# Altium integrated library NANO33BLE_V2.0.IntLib: 23 symbols
Pins are listed as number, name and electrical type; pins without a type are passive.

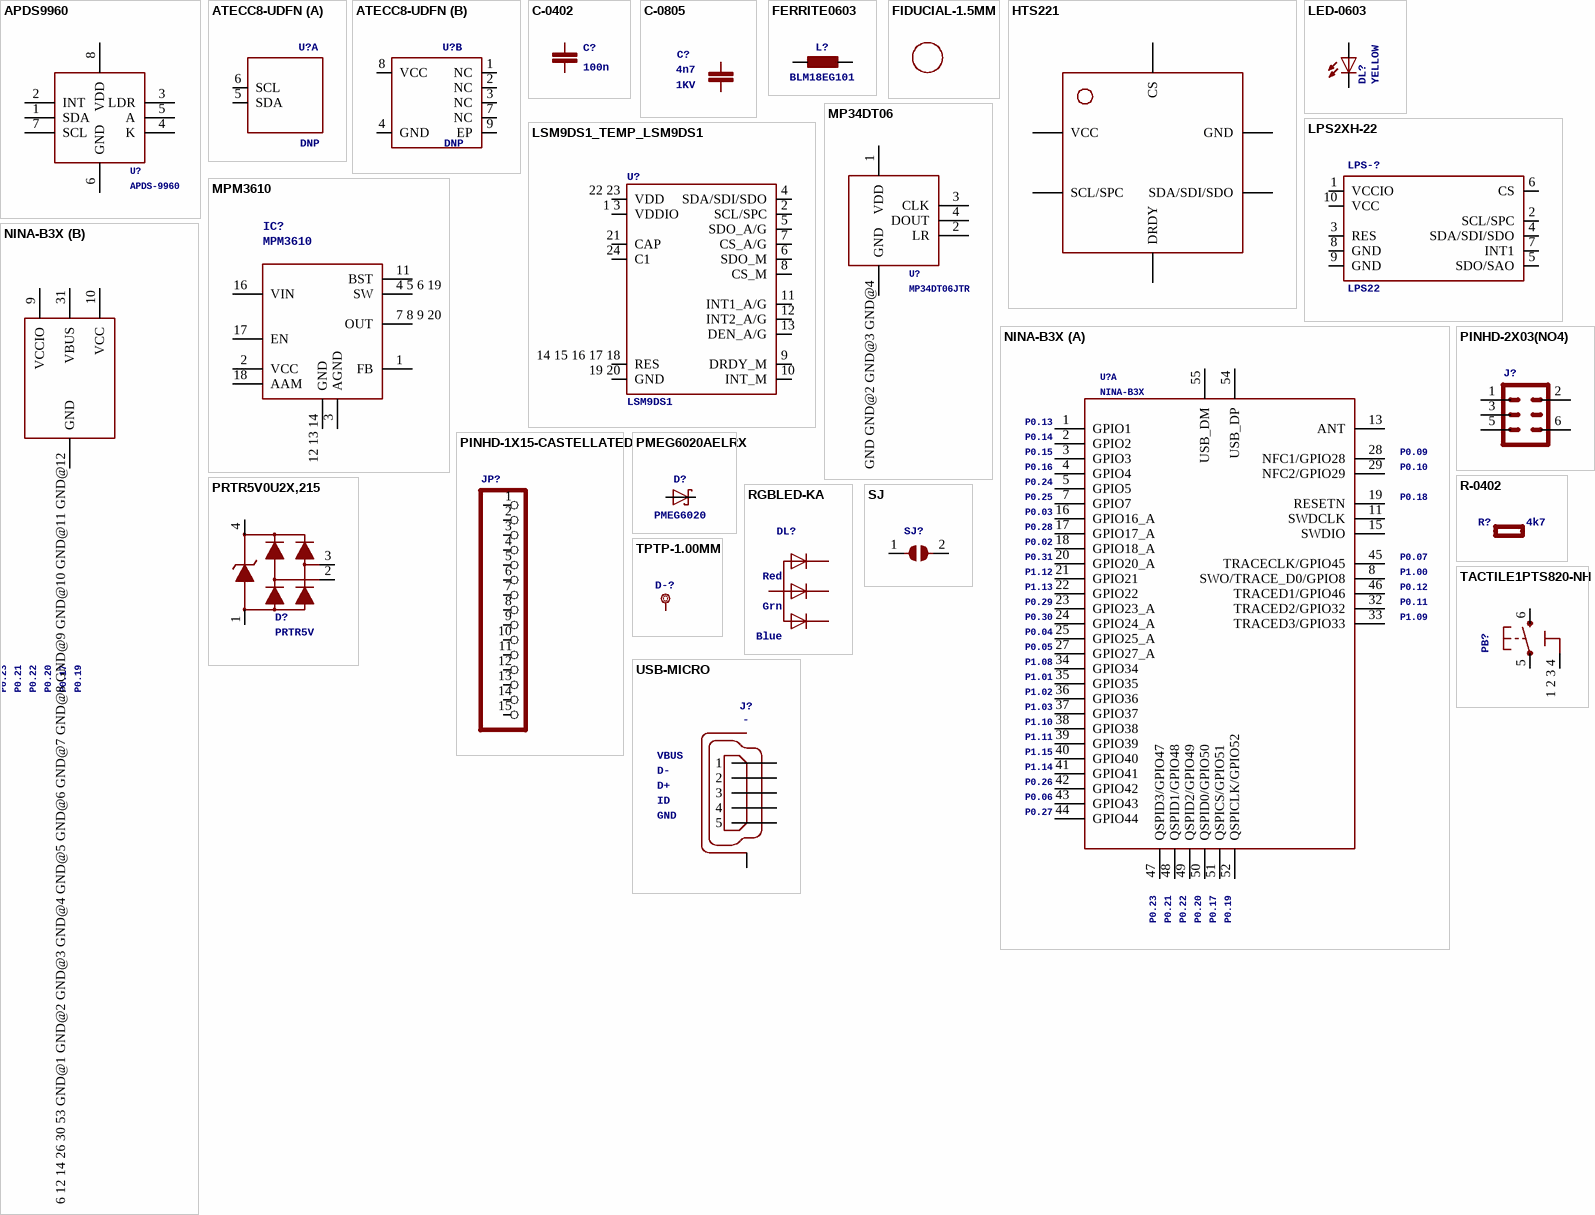
[diagram p0: symbols APDS9960 to USB-MICRO]

## APDS9960
designator U?, comment APDS-9960
MANUFACTURER: Broadcom; GateName_1: G$1; SymbolName_1: APDS9960; CODE-ARDUINO: A5475; NOTE: NO; LibraryName: Arduino-Sensors; DeviceSetName: APDS9960; DATASHEET: https://docs.broadcom.com/docs/AV02-4191EN; DISTRIBUTOR-LINK: https://www.digikey.com/product-detail/en/broadcom-limited/APDS-9960/516-3480-1-ND/6677150; DISTRIBUTOR-PN: 516-3480-1-ND; MANUFACTURER-PN: APDS-9960
footprint APDS9960
pins: 1 SDA, 2 INT, 3 LDR, 4 K, 5 A, 6 GND (power), 7 SCL, 8 VDD (power)

## ATECC8-UDFN
designator U?, comment DNP
Secure authentication and product validation device, EEPROM, I2C, 2.0 - 5.5V; GateName_1: A; SymbolName_1: ATECC508A-A; GateName_2: B; SymbolName_2: ATECC508A-B; DeviceName: 8-UDFN; DeviceSetName: ATECC; LibraryName: Arduino-ICs; CODE-ARDUINO: DNP; DATASHEET: DNP; DISTRIBUTOR-LINK: DNP; DISTRIBUTOR-PN: DNP; MANUFACTURER: DNP; MANUFACTURER-PN: DNP; NOTE: DNP
footprint SON50P300X200X60-9N-EP160X140
part A pins: 5 SDA, 6 SCL
part B pins: 1 NC, 2 NC, 3 NC, 4 GND (power), 7 NC, 8 VCC (power), 9 EP

## C-0402
designator C?, comment 100n
SMD Capacitor; MANUFACTURER: TDK; MANUFACTURER-PN: C1005X5R1H104K050BB; GateName_1: G$1; SymbolName_1: C; DeviceName: -0402; CODE-ARDUINO: 0132; LibraryName: Arduino-rcl; DeviceSetName: C; DATASHEET: http://www.tdk.com/pdf/TDKMLCCCapRange.pdf; DISTRIBUTOR-LINK: http://www.digikey.com/product-detail/en/tdk-corporation/C1005X5R1H104K050BB/445-5942-1-ND/2443982; DISTRIBUTOR-PN: 445-5942-1-ND; NOTE: -
footprint 0402-1005X55N
pins: 1, 2

## C-0805
designator C?, comment 4n7  VOLTAGE: 1KV
SMD Capacitor; MANUFACTURER: Kemet; MANUFACTURER-PN: C0805C472KDRACTU; GateName_1: G$1; SymbolName_1: C; DeviceName: -0805; CODE-ARDUINO: 0689; LibraryName: Arduino-rcl; DeviceSetName: C; DATASHEET: http://www.kemet.com/Lists/ProductCatalog/Attachments/40/KEM_C1010_X7R_HV_SMD.pdf; DISTRIBUTOR-LINK: www.kemet.com/docfinder?Partnumber=C0805C472KDRACTU; DISTRIBUTOR-PN: 399-6738-1-ND; NOTE: -
footprint 0805-R2013X50N
pins: 1, 2

## FERRITE0603
designator L?, comment BLM18EG101
SMD ferrite; MANUFACTURER: Murata; MANUFACTURER-PN: BLM18EG101TN1D; GateName_1: >NAME; DeviceName: 0603; SymbolName_1: FERRITE; LibraryName: Arduino-rcl; DeviceSetName: FERRITE; CODE-ARDUINO: -; DATASHEET: http://www.murata.com/en-us/products/productdata/8796747366430/ENFA0021.pdf; DISTRIBUTOR-LINK: https://www.digikey.com/product-detail/en/murata-electronics-north-america/BLM18EG101TN1D/490-5978-1-ND/3845178; DISTRIBUTOR-PN: 490-5978-1-ND; NOTE: -
footprint 0603-1608X90N
pins: 1, 2

## FIDUCIAL-1.5MM
designator FD?, comment DNP  (value not drawn)
Fiducial mount; GateName_1: G$1; SymbolName_1: ARDUINO_FIDUCIAL; DeviceName: -1.5MM; LibraryName: Arduino-utility; DeviceSetName: FIDUCIAL; CODE-ARDUINO: DNP; DATASHEET: DNP; DISTRIBUTOR-LINK: DNP; DISTRIBUTOR-PN: DNP; MANUFACTURER: DNP; MANUFACTURER-PN: DNP
footprint FD-1-1.5

## HTS221
designator HS-?  (value not drawn)
MANUFACTURER: STMicroelectronics; MANUFACTURER-PN: HTS221TR; GateName_1: G$1; CODE-ARDUINO: A5356; SymbolName_1: HTS221; LibraryName: Arduino-Sensors; DeviceSetName: HTS221; DATASHEET: https://nl.mouser.com/datasheet/2/389/hts221-954783.pdf; DISTRIBUTOR-LINK: https://nl.mouser.com/ProductDetail/STMicroelectronics/HTS221TR?qs=%2fha2pyFaduhYqhgVSCoMJjbIcKdCD1D5p03chi4OA3k%3d; DISTRIBUTOR-PN: 511-HTS221TR
footprint HTS221
pins: P$1.VDD VCC, P$2.SCL/SPC SCL/SPC, P$3.DRDY DRDY, P$4.SDA/SDI/SDO SDA/SDI/SDO, P$5.GND GND, P$6.CS CS

## LED-0603
designator DL?, comment YELLOW
LED; MANUFACTURER: Avago; MANUFACTURER-PN: HSMY-C190; GateName_1: G$1; DeviceName: -0603; CODE-ARDUINO: 2243; SymbolName_1: LED; LibraryName: Arduino-diodes; DeviceSetName: LED; DATASHEET: http://media.digikey.com/pdf/Data%20Sheets/Avago%20PDFs/HSMz-Czzz.pdf; DISTRIBUTOR-LINK: http://www.digikey.com/product-detail/en/broadcom-limited/HSMY-C190/516-1424-1-ND/637748; DISTRIBUTOR-PN: 516-1424-1-ND
footprint LEDC1608X80N-AK
pins: A, C

## LPS2XH-22
designator LPS-?, comment LPS22
MANUFACTURER: ST; MANUFACTURER-PN: LPS22HBTR; GateName_1: G$1; SymbolName_1: LPS25H; DeviceName: -22; DeviceSetName: LPS2XH; CODE-ARDUINO: A5390; LibraryName: Arduino-Sensors; DATASHEET: https://www.st.com/content/ccc/resource/technical/document/datasheet/bf/c1/4f/23/61/17/44/8a/DM00140895.pdf/files/DM00140895.pdf/jcr:content/translations/en.DM00140895.pdf; DISTRIBUTOR-LINK: https://www.digikey.com/product-detail/en/stmicroelectronics/LPS22HBTR/497-16265-1-ND/5799917; DISTRIBUTOR-PN: 497-16265-1-ND
footprint LPS22H
pins: 1 VCCIO, 2 SCL/SPC, 3 RES, 4 SDA/SDI/SDO, 5 SDO/SAO, 6 CS, 7 INT1, 8 GND, 9 GND, 10 VCC

## LSM9DS1_TEMP_LSM9DS1
designator U?, comment LSM9DS1
LSM9DS1 3D accelerometer, gyroscope & magnetometerThe LSM9DS1 is a system-in-package featuring a 3D digital linear acceleration sensor, a 3D digital angular rate sensor, and a 3D digital magnetic sensor.The LSM9DS1 has a linear acceleration full scale of ±2g/±4g/±8/±16 g, a magnetic field full scale of ±4/±8/±12/±16 gauss and an angular rate of ±245/±500/±2000 dps.The LSM9DS1 includes an I2 C serial bus interface supporting standard and fast mode (100 kHz and 400 kHz) and an SPI serial standard interface.Magnetic, accelerometer and gyroscope sensing can be enabled or set in power-down mode separately for smart power management.The LSM9DS1 is available in a plastic land grid array package (LGA) and it is guaranteed to operate over an extended temperature range from -40 °C to +85 °C.; MANUFACTURER: ST; MANUFACTURER-PN: LSM9DS1TR; GateName_1: G$1; SymbolName_1: LSM9DS1_TEMP_LSM9DS1; CODE-ARDUINO: A5430; NOTE: NO; LibraryName: Arduino-ICs; DeviceSetName: LSM9DS1_TEMP_LSM9DS1; DATASHEET: https://www.st.com/content/ccc/resource/technical/document/datasheet/1e/3f/2a/d6/25/eb/48/46/DM00103319.pdf/files/DM00103319.pdf/jcr:content/translations/en.DM00103319.pdf; DISTRIBUTOR-LINK: https://www.digikey.com/product-detail/en/stmicroelectronics/LSM9DS1TR/497-14946-1-ND/4988079; DISTRIBUTOR-PN: 497-14946-1-ND
footprint LSM9DS1_TEMP_LGA24-8X4
pins: 1 3 VDDIO, 2 SCL/SPC, 4 SDA/SDI/SDO, 5 SDO_A/G, 6 SDO_M, 7 CS_A/G, 8 CS_M, 9 DRDY_M, 10 INT_M, 11 INT1_A/G, 12 INT2_A/G, 13 DEN_A/G, 14 15 16 17 18 RES, 19 20 GND, 21 CAP, 22 23 VDD, 24 C1

## MP34DT06
designator U?, comment MP34DT06JTR
GateName_1: G$1; CODE-ARDUINO: A5470; SymbolName_1: MP34DT06J; LibraryName: Arduino-Sensors; DeviceSetName: MP34DT06; DATSHEET: https://www.st.com/resource/en/datasheet/mp34dt06j.pdf; DISTRIBUTOR-LINK: https://www.digikey.com/product-detail/en/stmicroelectronics/MP34DT06JTR/497-18180-1-ND/9605997; DISTRIBUTOR-PN: 497-18180-1-ND; MANUFACTURER-PN: MP34DT06JTR
footprint HCLGA
pins: 1 VDD (power), 2 LR, 3 CLK, 4 DOUT, GND GND@2 GND@3 GND@4 GND (power)

## MPM3610
designator IC?
MPM3610 Step Down Regulator; MANUFACTURER: MPS; MANUFACTURER-PN: MPM3610AGQV-P; GateName_1: G$1; CODE-ARDUINO: 2093; RESTRICTIONS: NO; SymbolName_1: MPM3610; LibraryName: Arduino-ICs; DeviceSetName: MPM3610; DATASHEET: https://www.monolithicpower.com/pub/media/document/MPM3610_r1.01.pdf; DISTRIBUTOR-LINK: https://www.digikey.com/product-detail/en/monolithic-power-systems-inc/MPM3610AGQV-P/1589-1249-1-ND/5298336; DISTRIBUTOR-PN: 1589-1249-1-ND
footprint MPM3610
pins: 1 FB, 2 VCC, 3 AGND, 4 5 6 19 SW, 7 8 9 20 OUT, 11 BST, 12 13 14 GND, 16 VIN, 17 EN, 18 AAM

## NINA-B3X
designator U?
UBLOX BLE module; GateName_1: A; GateName_2: B; SymbolName_2: NINA-B3X-PS; SymbolName_1: NINA-B3X; LibraryName: Arduino-ucs&SoCs; DeviceSetName: NINA-B3X; P0.13: P0.13; P0.14: P0.14; P0.15: P0.15; P0.16: P0.16; P0.24: P0.24; P0.25: P0.25; P1.00: P1.00; P0.03: P0.03; P0.28: P0.28; P0.02: P0.02; P0.18: P0.18; P0.31: P0.31; P1.12: P1.12; P1.13: P1.13; P0.29: P0.29; P0.30: P0.30; P0.04: P0.04; P0.05: P0.05; P1.08: P1.08; P1.01: P1.01; P1.02: P1.02; P1.03: P1.03; P1.10: P1.10; P1.11: P1.11; P1.15: P1.15; P1.14: P1.14; P0.26: P0.26; P0.06: P0.06; P0.27: P0.27; P0.07: P0.07; P0.12: P0.12; P0.23: P0.23; P0.21: P0.21; P0.22: P0.22; P0.20: P0.20; P0.17: P0.17; P0.19: P0.19; P0.11: P0.11; P1.09: P1.09; P0.09: P0.09; P0.10: P0.10
footprint NINA-B3X
part A pins: 1 GPIO1, 2 GPIO2, 3 GPIO3, 4 GPIO4, 5 GPIO5, 7 GPIO7, 8 SWO/TRACE_D0/GPIO8, 11 SWDCLK, 13 ANT, 15 SWDIO, 16 GPIO16_A, 17 GPIO17_A, 18 GPIO18_A, 19 RESETN, 20 GPIO20_A, 21 GPIO21, 22 GPIO22, 23 GPIO23_A, 24 GPIO24_A, 25 GPIO25_A, 27 GPIO27_A, 28 NFC1/GPIO28, 29 NFC2/GPIO29, 32 TRACED2/GPIO32, 33 TRACED3/GPIO33, 34 GPIO34, 35 GPIO35, 36 GPIO36, 37 GPIO37, 38 GPIO38, 39 GPIO39, 40 GPIO40, 41 GPIO41, 42 GPIO42, 43 GPIO43, 44 GPIO44, 45 TRACECLK/GPIO45, 46 TRACED1/GPIO46, 47 QSPID3/GPIO47, 48 QSPID1/GPIO48, 49 QSPID2/GPIO49, 50 QSPID0/GPIO50, 51 QSPICS/GPIO51, 52 QSPICLK/GPIO52, 54 USB_DP, 55 USB_DM
part B pins: 6 12 14 26 30 53 GND@1 GND@2 GND@3 GND@4 GND@5 GND@6 GND@7 GND@8 GND@9 GND@10 GND@11 GND@12 GND (power), 9 VCCIO (power), 10 VCC (power), 31 VBUS (power)

## PINHD-1X15-CASTELLATED
designator JP?  (value not drawn)
PIN HEADER; GateName_1: A; SymbolName_1: PINHD15; DeviceName: -CASTELLATED; LibraryName: Arduino-connectors; DeviceSetName: PINHD-1X15
footprint 1X15-CASTELL
pins: 1, 2, 3, 4, 5, 6, 7, 8, 9, 10, 11, 12, 13, 14, 15

## PINHD-2X03(NO4)
designator J?, comment DNP  (value not drawn)
PIN HEADER; GateName_1: G$1; SymbolName_1: 3X02(NO4); DeviceSetName: PINHD-2X03(NO4); LibraryName: Arduino-connectors; CODE-ARDUINO: DNP; DATASHEET: DNP; DISTRIBUTOR-LINK: DNP; DISTRIBUTOR-PN: DNP; MANUFACTURER: DNP; MANUFACTURER-PN: DNP
footprint 2X03-TP1
pins: 1, 2, 3, 5, 6

## PMEG6020AELRX
designator D?, comment PMEG6020
60 V, 2 A low leakage current Schottky barrier rectifierDatasheet; MANUFACTURER: NXP; GateName_1: G$1; SymbolName_1: SCHOTTKY-2; DeviceSetName: PMEG6020AELRX; CODE-ARDUINO: 2208 or 0025; LibraryName: Arduino-diodes; DATASHEET: http://www.nxp.com/documents/data_sheet/PMEG6020AELR.pdf; DISTRIBUTOR-LINK: http://www.digikey.com/products/en?keywords=%20568-12710-1-ND; DISTRIBUTOR-PN: 568-12710-1-ND; MANUFACTURER-PN: PMEG6020AELRX
footprint SODFL3517X110N
pins: A, C

## PRTR5V0U2X,215
designator D?, comment PRTR5V
USB ESD protection; MANUFACTURER: NXP; GateName_1: G$1; SymbolName_1: PRTR5V0U2X; DeviceSetName: PRTR5V0U2X,215; CODE-ARDUINO: 2209; LibraryName: Arduino-diodes; DATASHEET: http://www.nxp.com/documents/data_sheet/PRTR5V0U2X.pdf; DISTRIBUTOR-LINK: http://www.digikey.com/product-detail/en/nxp-semiconductors/PRTR5V0U2X,215/568-4140-1-ND/1589981; DISTRIBUTOR-PN: 568-4140-1-ND; MANUFACTURER-PN: PRTR5V0U2X,215
footprint SOT190P230X110-4N
pins: 1, 2, 3, 4

## R-0402
designator R?, comment 4k7
SMD Resistor; GateName_1: G$1; SymbolName_1: R; DeviceName: -0402; CODE-ARDUINO: DNP; LibraryName: Arduino-rcl; DeviceSetName: R; DATASHEET: DNP; DISTRIBUTOR-LINK: DNP; DISTRIBUTOR-PN: DNP; MANUFACTURER: DNP; MANUFACTURER-PN: DNP; NOTE: DNP
footprint 0402-1005X55N
pins: 1, 2

## RGBLED-KA
designator DL?, comment -  (value not drawn)
5050 RGB LED; MANUFACTURER-PN: SMLP34RGB2W3; GateName_1: G$1; SymbolName_1: RGBLED-KA; LibraryName: Arduino-diodes; DeviceSetName: RGBLED-KA; CODE-ARDUINO: *; DATASHEET: https://www.rohm.com/datasheet/SMLP34RGB2W; DISTRIBUTOR-LINK: https://www.digikey.com/product-detail/en/rohm-semiconductor/SMLP34RGB2W3/SMLP34RGB2W3CT-ND/2921110; DISTRIBUTOR-PN: SMLP34RGB2W3CT-ND; Red: Red; Grn: Grn; Blue: Blue
footprint SMLP34RGB2W
pins: 1 A, 2 RED_C, 3 BLUE_C, 4 GREEN_C

## SJ
designator SJ?, comment DNP  (value not drawn)
SMD solder JUMPER; GateName_1: 1; SymbolName_1: SJ; LibraryName: Arduino-utility; DeviceSetName: SJ; CODE-ARDUINO: DNP; DATASHEET: DNP; DISTRIBUTOR-LINK: DNP; DISTRIBUTOR-PN: DNP; MANUFACTURER: DNP; MANUFACTURER-PN: DNP
footprint SJ
pins: 1, 2

## TACTILE1PTS820-NH
designator PB?, comment PTS820  (value not drawn)
Tactile Switch SPST-NO Top Actuated Surface Mount; MANUFACTURER: C&K; MANUFACTURER-PN: PTS820 J25K SMTR LFS; GateName_1: G$1; SymbolName_1: TACTILE-3PINS; DeviceName: PTS820-NH; DeviceSetName: TACTILE1; CODE-ARDUINO: 0173; LibraryName: Arduino-pushbuttons; DATASHEET: http://www.ckswitches.com/media/1474/pts820.pdf; DISTRIBUTOR-LINK: https://www.digikey.com/product-detail/en/c-k/PTS820-J15M-SMTR-LFS/CKN10506CT-ND/4176681; DISTRIBUTOR-PN: PTS820 J25K SMTR LFS-ND
footprint C&K_PTS820_NO_HOLES
pins: 1 2 3 4 3 (power), 5 1, 6 2

## TPTP-1.00MM
designator D-?, comment DNP  (value not drawn)
Testpoint; GateName_1: G$1; DeviceName: TP-1.00MM; DeviceSetName: TP; SymbolName_1: TESTPOINT; LibraryName: Arduino-utility; CODE-ARDUINO: DNP; DATASHEET: DNP; DISTRIBUTOR-LINK: DNP; DISTRIBUTOR-PN: DNP; MANUFACTURER: DNP; MANUFACTURER-PN: DNP
footprint TP-1.00MM
pins: X P$1

## USB-MICRO
designator J?, comment -
USB - micro AB USB 2.0 Receptacle Connector 5 Position Surface Mount, Right Angle, Horizontal; MANUFACTURER: Hirose; MANUFACTURER-PN: ZX62-AB-5PA(31); GateName_1: G$1; CODE-ARDUINO: 2219; SymbolName_1: USB-MICRO; LibraryName: Arduino-connectors; DeviceSetName: USB-MICRO; DATASHEET: https://www.hirose.com/product/en/download_file/key_name/ZX/category/Catalog/doc_file_id/31704/?file_category_id=4&item_id=13&is_series=1; DISTRIBUTOR-LINK: http://www.digikey.com/product-detail/en/hirose-electric-co-ltd/ZX62-AB-5PA(31)/H125279CT-ND/5994741; DISTRIBUTOR-PN: H125279CT-ND; VBUS: VBUS; D-: D-; D+: D+; ID: ID; GND: GND
footprint ZX62-AB-5PA
pins: 1, 2, 3, 4, 5, 6 7 8 9 10 11 SH